# Altium schematic symbol library LMR64010.SchLib: 1 symbol
Pins are listed as number, name and electrical type; pins without a type are passive.

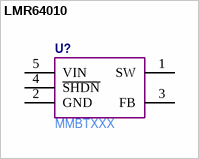
[diagram p0: symbol LMR64010]

## LMR64010
designator U?  Manufacturer Part Number: MMBTXXX  (hidden comment: *)
pins: 1 SW, 2 GND, 3 FB, 4 ~{SHDN}, 5 VIN